# Altium schematic symbol library MODULE.SchLib: 31 symbols
Pins are listed as number, name and electrical type; pins without a type are passive.

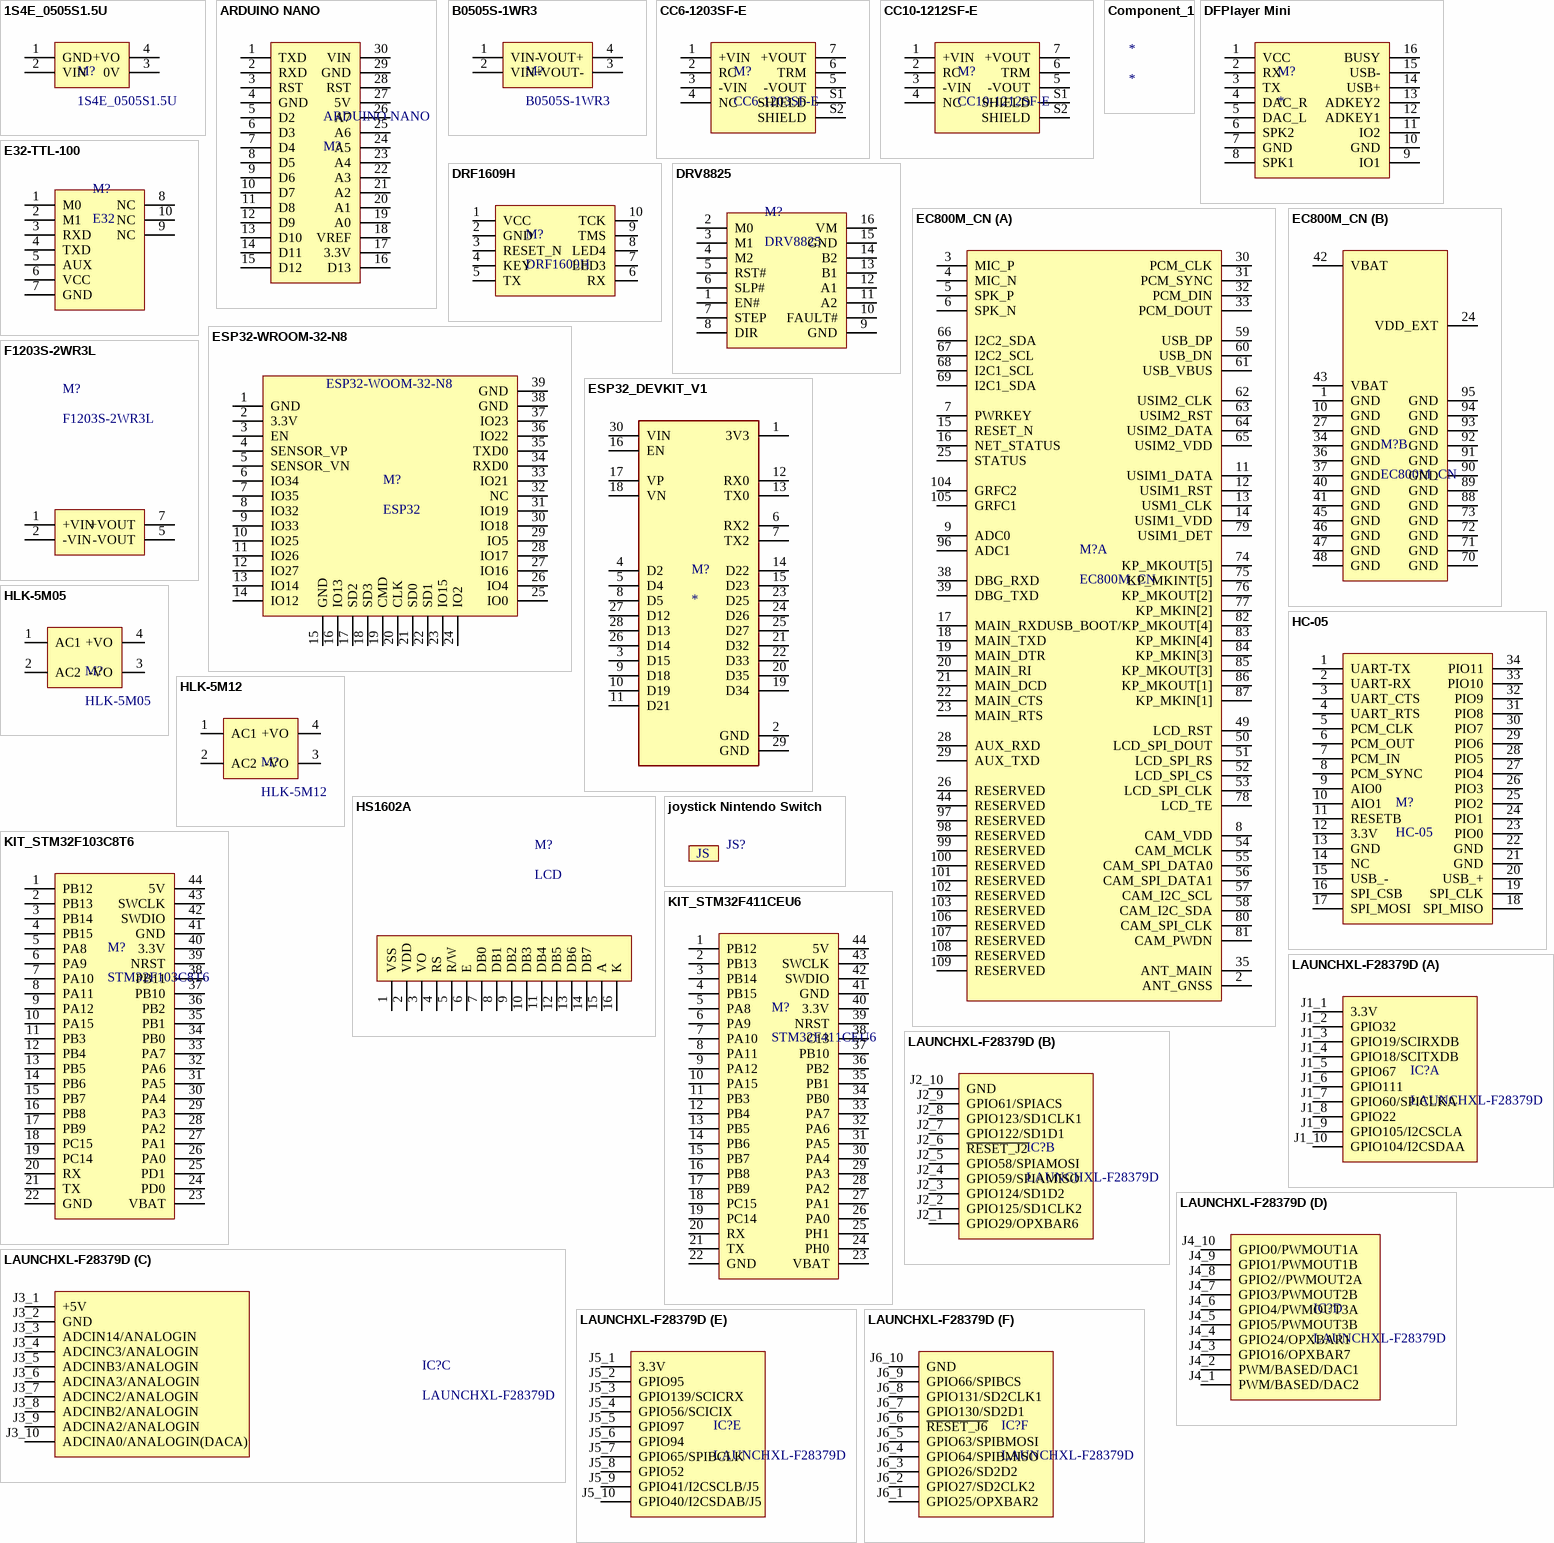
[diagram p0: symbols 1S4E_0505S1.5U to LAUNCHXL-F28379D]

## 1S4E_0505S1.5U
designator M?
Isolated Module DC DC Converter 1 Output 5V 200mA 4.5V - 5.5V Input; Manufacturer: GAPTEC Electronic; Package: SIP-4; Mfr.Part #: 1S4E_0505S1.5U; DigiKey Part Number: 3182-1S4E_0505S1.5U-ND; LCSC Part #: C6048121
footprint SIP-4,11.68mmx6mm
pins: 1 GND, 2 VIN, 3 0V, 4 +VO

## ARDUINO NANO
designator ARDUINO NANO, comment M?
ARDUINO NANO; So_Chan_Cam: 30; So_Chan_Dan: 0; Manufacturer: Arduino; Name: ARDUINO NANO; Package: Plugin
footprint ARDUINO NANO
pins: 1 TXD, 2 RXD, 3 RST, 4 GND, 5 D2, 6 D3, 7 D4, 8 D5, 9 D6, 10 D7, 11 D8, 12 D9, 13 D10, 14 D11, 15 D12, 16 D13, 17 3.3V, 18 VREF, 19 A0, 20 A1, 21 A2, 22 A3, 23 A4, 24 A5, 25 A6, 26 A7, 27 5V, 28 RST, 29 GND, 30 VIN

## B0505S-1WR3
designator M?
SIP-4 Isolated Power Modules ROHS; Manufacturer: EVISUN; So_Chan_Dan: 0; So_Chan_Cam: 4; Package: SIP-4; Mfr.Part #: B0505S-1WR3; Name: B0505S-1WR3
footprint SIP-4,11.68mmx6mm
pins: 1 VIN-, 2 VIN+, 3 VOUT-, 4 VOUT+

## CC6-1203SF-E
designator M?
Isolated Module DC DC Converter 1 Output 3.3V 1.2A 9V - 18V Input; Manufacturer: TDK-Lambda; So_Chan_Dan: 0; So_Chan_Cam: 9; Package: DIP,22.9x21.1mm; Mfr.Part #: CC6-1203SF-E; Name: CC6-1203SF-E
footprint DIP,22.9x21.1mm
pins: 1 +VIN, 2 RC, 3 -VIN, 4 NC, 5 -VOUT, 6 TRM, 7 +VOUT, S1 SHIELD, S2 SHIELD

## CC10-1212SF-E
designator M?
Isolated Module DC DC Converter 1 Output 12 ~ 15V 1A 9V - 18V Input; Manufacturer: TDK-Lambda; So_Chan_Dan: 0; So_Chan_Cam: 9; Package: DIP,22.9x21.1mm; Mfr.Part #: CC10-1212SF-E; Name: CC10-1212SF-E
footprint DIP,35.6mm x 22.6mm
pins: 1 +VIN, 2 RC, 3 -VIN, 4 NC, 5 -VOUT, 6 TRM, 7 +VOUT, S1 SHIELD, S2 SHIELD

## Component_1
designator *

## DFPlayer Mini
designator M?
footprint MODULE_DFPlayer_Mini
pins: 1 VCC, 2 RX, 3 TX, 4 DAC_R, 5 DAC_L, 6 SPK2, 7 GND, 8 SPK1, 9 IO1, 10 GND, 11 IO2, 12 ADKEY1, 13 ADKEY2, 14 USB+, 15 USB-, 16 BUSY

## DRF1609H
designator M?
RF Zigbee UART DRF1609H CC2630+PA; Manufacturer: DTK; Package: SMD; Mfr.Part #: DRF1609H; DigiKey Part Number: NO; LCSC Part #: NO
footprint DRF1609H
pins: 1 VCC, 2 GND, 3 RESET_N, 4 KEY, 5 TX, 6 RX, 7 LED3, 8 LED4, 9 TMS, 10 TCK

## DRV8825
designator M?
DRV8825 Stepper Motor Controller IC; Manufacturer: Texas Instruments; So_Chan_Dan: 0; So_Chan_Cam: 16; Mfr.Part #: DRV8825; Package: Plugin; Name: DRV8825
footprint DRV8825
pins: 1 EN#, 2 M0, 3 M1, 4 M2, 5 RST#, 6 SLP#, 7 STEP, 8 DIR, 9 GND, 10 FAULT#, 11 A2, 12 A1, 13 B1, 14 B2, 15 GND, 16 VM

## E32-TTL-100
designator M?, comment E32
E32-TTL-100 is a 100mW wireless transceiver module with LoRa / spread-spectrum technology, operates at 410~441MHz (Default: 433MHz), based on original imported RFIC SX1278 from SEMTECH; Manufacturer: Chengdu Ebyte Electronic; Mfr.Part #: E32-TTL-100; Package: Through Hole,P=2.54mm; LCSC Part #: NO; DigiKey Part Number: NO; ComponentLink1Description: Link; ComponentLink1URL: https://nshopvn.com/product/module-rf-sx1278-lora-e32/
footprint E32-TTL-100
pins: 1 M0, 2 M1, 3 RXD, 4 TXD, 5 AUX, 6 VCC, 7 GND, 8 NC, 9 NC, 10 NC

## EC800M_CN
designator M?
LTE Standard Module Series EC800M_CN; Manufacturer: QUECTEL; Mfr.Part #: EC800M_CN; Package: EC800M_CN; LCSC Part #: NO; DigiKey Part Number: NO
footprint EC800M_CN
part A pins: 2 ANT_GNSS, 3 MIC_P, 4 MIC_N, 5 SPK_P, 6 SPK_N, 7 PWRKEY, 8 CAM_VDD, 9 ADC0, 11 USIM1_DATA, 12 USIM1_RST, 13 USM1_CLK, 14 USIM1_VDD, 15 RESET_N, 16 NET_STATUS, 17 MAIN_RXD, 18 MAIN_TXD, 19 MAIN_DTR, 20 MAIN_RI, 21 MAIN_DCD, 22 MAIN_CTS, 23 MAIN_RTS, 25 STATUS, 26 RESERVED, 28 AUX_RXD, 29 AUX_TXD, 30 PCM_CLK, 31 PCM_SYNC, 32 PCM_DIN, 33 PCM_DOUT, 35 ANT_MAIN, 38 DBG_RXD, 39 DBG_TXD, 44 RESERVED, 49 LCD_RST, 50 LCD_SPI_DOUT, 51 LCD_SPI_RS, 52 LCD_SPI_CS, 53 LCD_SPI_CLK, 54 CAM_MCLK, 55 CAM_SPI_DATA0, 56 CAM_SPI_DATA1, 57 CAM_I2C_SCL, 58 CAM_I2C_SDA, 59 USB_DP, 60 USB_DN, 61 USB_VBUS, 62 USIM2_CLK, 63 USIM2_RST, 64 USIM2_DATA, 65 USIM2_VDD, 66 I2C2_SDA, 67 I2C2_SCL, 68 I2C1_SCL, 69 I2C1_SDA, 74 KP_MKOUT[5], 75 KP_MKINT[5], 76 KP_MKOUT[2], 77 KP_MKIN[2], 78 LCD_TE, 79 USIM1_DET, 80 CAM_SPI_CLK, 81 CAM_PWDN, 82 USB_BOOT/KP_MKOUT[4], 83 KP_MKIN[4], 84 KP_MKIN[3], 85 KP_MKOUT[3], 86 KP_MKOUT[1], 87 KP_MKIN[1], 96 ADC1, 97 RESERVED, 98 RESERVED, 99 RESERVED, 100 RESERVED, 101 RESERVED, 102 RESERVED, 103 RESERVED, 104 GRFC2, 105 GRFC1, 106 RESERVED, 107 RESERVED, 108 RESERVED, 109 RESERVED
part B pins: 1 GND, 10 GND, 24 VDD_EXT, 27 GND, 34 GND, 36 GND, 37 GND, 40 GND, 41 GND, 42 VBAT, 43 VBAT, 45 GND, 46 GND, 47 GND, 48 GND, 70 GND, 71 GND, 72 GND, 73 GND, 88 GND, 89 GND, 90 GND, 91 GND, 92 GND, 93 GND, 94 GND, 95 GND

## ESP32-WROOM-32-N8
designator M?, comment ESP32
148dBm 20dBm SPI SMD-16P LoRa Modules ROHS; Manufacturer: Espressif Systems; Mfr.Part #: ESP32-WROOM-32-N8; So_Chan_Dan: 48; So_Chan_Cam: 0; Package: SMD,18x25.5mm; Name: ESP32-WROOM-32-N8
footprint SMD,25.5x18mm
pins: 1 GND, 2 3.3V, 3 EN, 4 SENSOR_VP, 5 SENSOR_VN, 6 IO34, 7 IO35, 8 IO32, 9 IO33, 10 IO25, 11 IO26, 12 IO27, 13 IO14, 14 IO12, 15 GND, 16 IO13, 17 SD2, 18 SD3, 19 CMD, 20 CLK, 21 SD0, 22 SD1, 23 IO15, 24 IO2, 25 IO0, 26 IO4, 27 IO16, 28 IO17, 29 IO5, 30 IO18, 31 IO19, 32 NC, 33 IO21, 34 RXD0, 35 TXD0, 36 IO22, 37 IO23, 38 GND, 39 GND
text: ESP32-WOOM-32-N8

## ESP32_DEVKIT_V1
designator M?
0.96 ST7735S LCD Screen ROHS; Manufacturer: Not in stock; Mfr.Part #: ESP32-DEVKIT-V1; Package1: TFT LCD 0.96inch; MF: Do it; Value: *; SnapEDA_Link: https://www.snapeda.com/parts/ESP32-DEVKIT-V1/Do+it/view-part/?ref=snap; Check_prices: https://www.snapeda.com/parts/ESP32-DEVKIT-V1/Do+it/view-part/?ref=eda
footprint MODULE_ESP32_DEVKIT_V1
pins: 1 3V3, 2 GND, 3 D15, 4 D2, 5 D4, 6 RX2, 7 TX2, 8 D5, 9 D18, 10 D19, 11 D21, 12 RX0, 13 TX0, 14 D22, 15 D23, 16 EN, 17 VP, 18 VN, 19 D34, 20 D35, 21 D32, 22 D33, 23 D25, 24 D26, 25 D27, 26 D14, 27 D12, 28 D13, 29 GND, 30 VIN

## F1203S-2WR3L
designator M?
SIP-4P Isolated Power Modules ROHS; Manufacturer: HI-LINK; Mfr.Part #: VRB1212LD-10WR3; So_Chan_Dan: 0; So_Chan_Cam: 4; Package: SIP-4P; Name: F1203S-2WR3L
footprint SIP-4
pins: 1 +VIN, 2 -VIN, 5 -VOUT, 7 +VOUT

## HC-05
designator M?
Bluetooth to Serial Port Module; Manufacturer: Shenzhen HCSR; Mfr.Part #: HC-05; LCSC Part #: NO; DigiKey Part Number: NO; Package: SMD
footprint HC-05
pins: 1 UART-TX, 2 UART-RX, 3 UART_CTS, 4 UART_RTS, 5 PCM_CLK, 6 PCM_OUT, 7 PCM_IN, 8 PCM_SYNC, 9 AIO0, 10 AIO1, 11 RESETB, 12 3.3V, 13 GND, 14 NC, 15 USB_-, 16 SPI_CSB, 17 SPI_MOSI, 18 SPI_MISO, 19 SPI_CLK, 20 USB_+, 21 GND, 22 GND, 23 PIO0, 24 PIO1, 25 PIO2, 26 PIO3, 27 PIO4, 28 PIO5, 29 PIO6, 30 PIO7, 31 PIO8, 32 PIO9, 33 PIO10, 34 PIO11

## HLK-5M05
designator M?
AC/DC-DC DIP,38x23mm AC DC Converters RoHS; Manufacturer: HI-LINK; Mfr.Part #: HLK-5M05; LCSC Part #: C209907; DigiKey Part Number: NO; Package: DIP,38x23mm
footprint DIP,38x23mm
pins: 1 AC1, 2 AC2, 3 -VO, 4 +VO

## HLK-5M12
designator M?
AC/DC-DC DIP,38x23mm AC DC Converters RoHS; Manufacturer: HI-LINK; Mfr.Part #: HLK-5M12; LCSC Part #: C209908; DigiKey Part Number: NO; Package: DIP,38x23mm; ComponentLink1Description: Link; ComponentLink1URL: https://www.lcsc.com/product-detail/C209908.html
footprint DIP,38x23mm
pins: 1 AC1, 2 AC2, 3 -VO, 4 +VO

## HS1602A
designator M?, comment LCD
2 SPLC780 LCD Screen ROHS; Manufacturer: HS; Mfr.Part #: HS1602A; Package: LCD1206; LCSC Part #: C5329588; DigiKey Part Number: NO
footprint LCD16X2
pins: 1 VSS, 2 VDD, 3 VO, 4 RS, 5 R/W, 6 E, 7 DB0, 8 DB1, 9 DB2, 10 DB3, 11 DB4, 12 DB5, 13 DB6, 14 DB7, 15 A, 16 K

## joystick Nintendo Switch
designator JS?  (value not drawn)
footprint joystick Nintendo Switch
text: JS

## KIT_STM32F103C8T6
designator M?, comment STM32F103C8T6
ARM-M3 72MHz 37 LQFP-48(7x7) Microcontrollers RoHS; Manufacturer: CbyP; Mfr.Part #: NO; Package: Through Hole,P=2.54mm; LCSC Part #: NO; DigiKey Part Number: NO
footprint KIT_STM32F103C8T6_V1
pins: 1 PB12, 2 PB13, 3 PB14, 4 PB15, 5 PA8, 6 PA9, 7 PA10, 8 PA11, 9 PA12, 10 PA15, 11 PB3, 12 PB4, 13 PB5, 14 PB6, 15 PB7, 16 PB8, 17 PB9, 18 PC15, 19 PC14, 20 RX, 21 TX, 22 GND, 23 VBAT, 24 PD0, 25 PD1, 26 PA0, 27 PA1, 28 PA2, 29 PA3, 30 PA4, 31 PA5, 32 PA6, 33 PA7, 34 PB0, 35 PB1, 36 PB2, 37 PB10, 38 PB11, 39 NRST, 40 3.3V, 41 GND, 42 SWDIO, 43 SWCLK, 44 5V

## KIT_STM32F411CEU6
designator M?, comment STM32F411CEU6
ARM Cortex-M4 32 Bit 100MHz 36 UFQFPN-48(7x7) Microcontrollers RoHS; Manufacturer: CbyP; Mfr.Part #: NO; Package: Through Hole,P=2.54mm; LCSC Part #: NO; DigiKey Part Number: NO
footprint KIT_STM32F1411CEU6_V1
pins: 1 PB12, 2 PB13, 3 PB14, 4 PB15, 5 PA8, 6 PA9, 7 PA10, 8 PA11, 9 PA12, 10 PA15, 11 PB3, 12 PB4, 13 PB5, 14 PB6, 15 PB7, 16 PB8, 17 PB9, 18 PC15, 19 PC14, 20 RX, 21 TX, 22 GND, 23 VBAT, 24 PH0, 25 PH1, 26 PA0, 27 PA1, 28 PA2, 29 PA3, 30 PA4, 31 PA5, 32 PA6, 33 PA7, 34 PB0, 35 PB1, 36 PB2, 37 PB10, 38 C13, 39 NRST, 40 3.3V, 41 GND, 42 SWDIO, 43 SWCLK, 44 5V

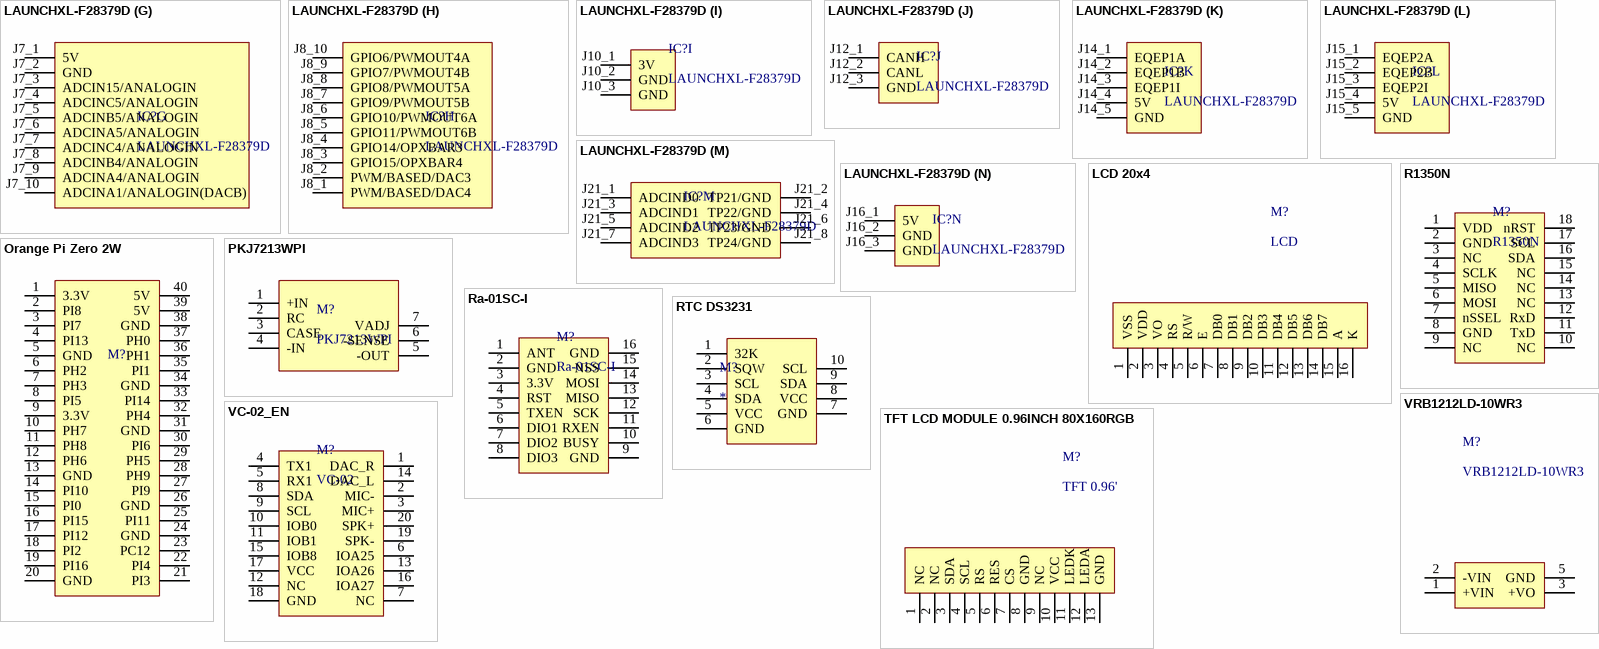
[diagram p1: symbols LAUNCHXL-F28379D to VRB1212LD-10WR3]

## LAUNCHXL-F28379D
designator IC?
C2000 Delfino MCU F28379D LaunchPadâ„¢ development kit; MF: Texas Instruments; SnapEDA_Link: https://www.snapeda.com/parts/LAUNCHXL-F28379D/Texas+Instruments/view-part/?ref=snap; Purchase-URL: https://pricing.snapeda.com/search/part/LAUNCHXL-F28379D/?ref=eda; Value: *; MP: LAUNCHXL-F28379D; Availability: In Stock; Check_prices: https://www.snapeda.com/parts/LAUNCHXL-F28379D/Texas+Instruments/view-part/?ref=eda; Package: None; Price: None
footprint LAUNCHXL-F28379D
part A pins: J1_1 3.3V, J1_2 GPIO32, J1_3 GPIO19/SCIRXDB, J1_4 GPIO18/SCITXDB, J1_5 GPIO67, J1_6 GPIO111, J1_7 GPIO60/SPICLKA, J1_8 GPIO22, J1_9 GPIO105/I2CSCLA, J1_10 GPIO104/I2CSDAA
part B pins: J2_1 GPIO29/OPXBAR6, J2_2 GPIO125/SD1CLK2, J2_3 GPIO124/SD1D2, J2_4 GPIO59/SPIAMISO, J2_5 GPIO58/SPIAMOSI, J2_6 ~{RESET_J2}, J2_7 GPIO122/SD1D1, J2_8 GPIO123/SD1CLK1, J2_9 GPIO61/SPIACS, J2_10 GND
part C pins: J3_1 +5V, J3_2 GND, J3_3 ADCIN14/ANALOGIN, J3_4 ADCINC3/ANALOGIN, J3_5 ADCINB3/ANALOGIN, J3_6 ADCINA3/ANALOGIN, J3_7 ADCINC2/ANALOGIN, J3_8 ADCINB2/ANALOGIN, J3_9 ADCINA2/ANALOGIN, J3_10 ADCINA0/ANALOGIN(DACA)
part D pins: J4_1 PWM/BASED/DAC2, J4_2 PWM/BASED/DAC1, J4_3 GPIO16/OPXBAR7, J4_4 GPIO24/OPXBAR1, J4_5 GPIO5/PWMOUT3B, J4_6 GPIO4/PWMOUT3A, J4_7 GPIO3/PWMOUT2B, J4_8 GPIO2//PWMOUT2A, J4_9 GPIO1/PWMOUT1B, J4_10 GPIO0/PWMOUT1A
part E pins: J5_1 3.3V, J5_2 GPIO95, J5_3 GPIO139/SCICRX, J5_4 GPIO56/SCICIX, J5_5 GPIO97, J5_6 GPIO94, J5_7 GPIO65/SPIBCLK, J5_8 GPIO52, J5_9 GPIO41/I2CSCLB/J5, J5_10 GPIO40/I2CSDAB/J5
part F pins: J6_1 GPIO25/OPXBAR2, J6_2 GPIO27/SD2CLK2, J6_3 GPIO26/SD2D2, J6_4 GPIO64/SPIBMISO, J6_5 GPIO63/SPIBMOSI, J6_6 ~{RESET_J6}, J6_7 GPIO130/SD2D1, J6_8 GPIO131/SD2CLK1, J6_9 GPIO66/SPIBCS, J6_10 GND
part G pins: J7_1 5V, J7_2 GND, J7_3 ADCIN15/ANALOGIN, J7_4 ADCINC5/ANALOGIN, J7_5 ADCINB5/ANALOGIN, J7_6 ADCINA5/ANALOGIN, J7_7 ADCINC4/ANALOGIN, J7_8 ADCINB4/ANALOGIN, J7_9 ADCINA4/ANALOGIN, J7_10 ADCINA1/ANALOGIN(DACB)
part H pins: J8_1 PWM/BASED/DAC4, J8_2 PWM/BASED/DAC3, J8_3 GPIO15/OPXBAR4, J8_4 GPIO14/OPXBAR3, J8_5 GPIO11/PWMOUT6B, J8_6 GPIO10/PWMOUT6A, J8_7 GPIO9/PWMOUT5B, J8_8 GPIO8/PWMOUT5A, J8_9 GPIO7/PWMOUT4B, J8_10 GPIO6/PWMOUT4A
part I pins: J10_1 3V, J10_2 GND, J10_3 GND
part J pins: J12_1 CANH, J12_2 CANL, J12_3 GND
part K pins: J14_1 EQEP1A, J14_2 EQEP1B, J14_3 EQEP1I, J14_4 5V, J14_5 GND
part L pins: J15_1 EQEP2A, J15_2 EQEP2B, J15_3 EQEP2I, J15_4 5V, J15_5 GND
part M pins: J21_1 ADCIND0, J21_2 TP21/GND, J21_3 ADCIND1, J21_4 TP22/GND, J21_5 ADCIND2, J21_6 TP23/GND, J21_7 ADCIND3, J21_8 TP24/GND
part N pins: J16_1 5V, J16_2 GND, J16_3 GND

## LCD 20x4
designator M?, comment LCD
2.4 SPLC780 LCD Screen ROHS; Manufacturer: HS; Mfr.Part #: HS204A; Name: LCD 20x4; So_Chan_Dan: 0; So_Chan_Cam: 20; Package: LCD 20x4
footprint LCD20X4
pins: 1 VSS, 2 VDD, 3 VO, 4 RS, 5 R/W, 6 E, 7 DB0, 8 DB1, 9 DB2, 10 DB3, 11 DB4, 12 DB5, 13 DB6, 14 DB7, 15 A, 16 K

## Orange Pi Zero 2W
designator M?  (value not drawn)
Orange Pi Zero 2W is powered by Allwinner H618 high-performance quad-core Cortex-A53 processor with up to 1.5GHz, integrated Mali G31 MP2 graphics processor, supporting OpenGL ES 1.0/2.0/3.2, OpenCL 2.0, Vulkan 1.1. It has 1GB /1.5GB / 2GB /4GB LPDDR4 memory specification options, supports 16MB SPI Flash, has Wi-Fi5, BT5.0.; Manufacturer: Orange Pi; Package: Through Hole,P=2.54mm; LCSC Part #: NO; Mfr.Part #: Orange Pi Zero 2W; DigiKey Part Number: NO
footprint Orange Pi Zero 2W
pins: 1 3.3V, 2 PI8, 3 PI7, 4 PI13, 5 GND, 6 PH2, 7 PH3, 8 PI5, 9 3.3V, 10 PH7, 11 PH8, 12 PH6, 13 GND, 14 PI10, 15 PI0, 16 PI15, 17 PI12, 18 PI2, 19 PI16, 20 GND, 21 PI3, 22 PI4, 23 PC12, 24 GND, 25 PI11, 26 GND, 27 PI9, 28 PH9, 29 PH5, 30 PI6, 31 GND, 32 PH4, 33 PI14, 34 GND, 35 PI1, 36 PH1, 37 PH0, 38 GND, 39 5V, 40 5V

## PKJ7213WPI
designator M?
Isolated Module DC DC Converter 1 Output 12 ~ 15V 1A 9V - 18V Input; Manufacturer: Flex Power Modules; So_Chan_Dan: 0; So_Chan_Cam: 9; Package: Plugin; Mfr.Part #: PKJ7213WPI; DigiKey Part Number: 2166-PKJ7213WPI-ND
footprint DIP,35.6mm x 22.6mm
pins: 1 +IN, 2 RC, 3 CASE, 4 -IN, 5 -OUT, 6 -SENSE, 7 VADJ

## R1350N
designator M?
Digital gyroscope and accelerometer; Manufacturer: CruizCore; Mfr.Part #: R1350N; Package: SMD; LCSC Part #: NO; DigiKey Part Number: NO
footprint R1350N
pins: 1 VDD, 2 GND, 3 NC, 4 SCLK, 5 MISO, 6 MOSI, 7 nSSEL, 8 GND, 9 NC, 10 NC, 11 TxD, 12 RxD, 13 NC, 14 NC, 15 NC, 16 SDA, 17 SCL, 18 nRST

## Ra-01SC-I
designator M?
IPEX interface -129dBm 2.8km SPI SMD,17x16mm RF Transceiver Modules and Modems RoHS; Manufacturer: Ai-Thinker; Mfr.Part #: Ra-01SC-I; Package: SMD,17x16mm; LCSC Part #: C2830750; DigiKey Part Number: NO; ComponentLink1Description: Link; ComponentLink1URL: https://www.lcsc.com/product-detail/C2830750.html?s_z=n_RA-01
footprint Ra-02/Ra-01
pins: 1 ANT, 2 GND, 3 3.3V, 4 RST, 5 TXEN, 6 DIO1, 7 DIO2, 8 DIO3, 9 GND, 10 BUSY, 11 RXEN, 12 SCK, 13 MISO, 14 MOSI, 15 NSS, 16 GND

## RTC DS3231
designator M?
footprint MODULE_DS3231_RTC
pins: 1 32K, 2 SQW, 3 SCL, 4 SDA, 5 VCC, 6 GND, 7 GND, 8 VCC, 9 SDA, 10 SCL

## TFT LCD MODULE 0.96INCH 80X160RGB
designator M?, comment TFT 0.96'
2.4 SPLC780 LCD Screen ROHS; Manufacturer: Newvisio; Mfr.Part #: N096-1608TBBIG11-H13; Name: LCD 2TFT LCD MODULE 0.96INCH 80X160RGB0x4; So_Chan_Dan: 13; So_Chan_Cam: 0; Package: SMD
footprint TFT LCD MODULE  0.96 inch 80RGB*160DOTS
pins: 1 NC, 2 NC, 3 SDA, 4 SCL, 5 RS, 6 RES, 7 CS, 8 GND, 9 NC, 10 VCC, 11 LEDK, 12 LEDA, 13 GND

## VC-02_EN
designator M?, comment VC-02
RF TXRX MODULE OFFLINE VOICE SMD; Manufacturer: Ai-Thinker; Mfr.Part #: VC-02_EN; Package: SMD,17x18mm; DigiKey Part Number: 4570-VC-02TR-ND; LCSC Part #: C3039678
footprint SMD,17x18mm(VC-02)
pins: 1 DAC_R, 2 MIC-, 3 MIC+, 4 TX1, 5 RX1, 6 IOA25, 7 NC, 8 SDA, 9 SCL, 10 IOB0, 11 IOB1, 12 NC, 13 IOA26, 14 DAC_L, 15 IOB8, 16 IOA27, 17 VCC, 18 GND, 19 SPK-, 20 SPK+

## VRB1212LD-10WR3
designator M?
Plugin Isolated Power Modules ROHS; Manufacturer: HI-LINK; So_Chan_Dan: 0; So_Chan_Cam: 4; Mfr.Part #: VRB1212LD-10WR3; Package: Plugin; Name: VRB1212LD-10WR3
footprint VRBXXXXLD-10WR3
pins: 1 +VIN, 2 -VIN, 3 +VO, 5 GND